# Altium schematic symbol library Ferrite.SchLib: 1 symbol
Pins are listed as number, name and electrical type; pins without a type are passive.

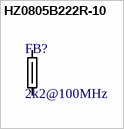
[diagram p0: symbol HZ0805B222R-10]

## HZ0805B222R-10
designator FB?  value 2k2@100MHz  (hidden comment: *)
Ferrite Bead, 0805, 2200R@100MHz, 0.8R@DC, 200mA max.
footprint L0805_N (Chip Inductor, 2-Leads, Body 2.00x1.25mm, IPC Medium Density)
pins: 1, 2